# Altium footprint library Crystals.PcbLib: 2 footprints
Each footprint in its own frame and in the unit in brackets; x right, y up, seen from the top. Pads: shape width x height; smd on the part's side, far side on the other; paste and mask are expansions set on the pad; w line width, h text height; cw(c..) or ccw(c..) is an arc to the next point about the centre after c.
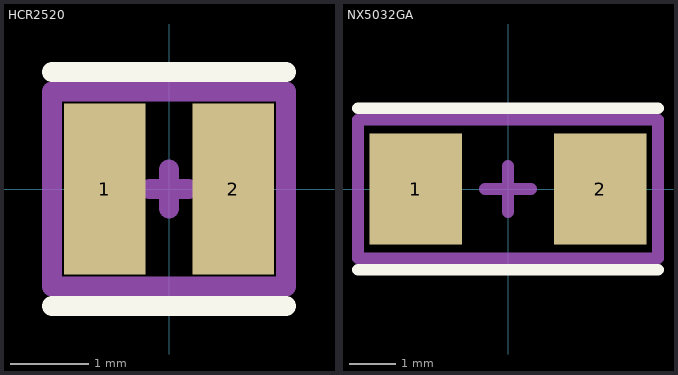
[diagram p0: the footprints below, top view; thin cyan lines are the x and y axes]

## HCR2520 [mm]
pads (2):
  rect 1.05x2.2 smd: 1(-0.825,0) 2(0.825,0)
Top Overlay:
  lines w0.254: -1.5,-1.5 1.5,-1.5 ; -1.5,1.5 1.5,1.5
Assembly:
  lines w0.254: -1.5,-1.25 -1.5,1.25 1.5,1.25 1.5,-1.25 -1.5,-1.25
Mechanical 15:
  lines w0.254: -0.25,0 0.25,0 ; 0,-0.25 0,0.25 ; -1.5,-1.25 -1.5,1.25 1.5,1.25 1.5,-1.25 -1.5,-1.25
3D body "XRCHA16M000F0A01R0.STEP": height 0.8, standoff 0, extent -1.25,-1 1.25,1

## NX5032GA [mm]
pads (2):
  rect 2x2.4 smd: 1(-2,0) 2(2,0)
Top Overlay:
  lines w0.254: -3.25,-1.75 3.25,-1.75 ; -3.25,1.75 3.25,1.75
Assembly:
  lines w0.254: -3.25,-1.5 -3.25,1.5 3.25,1.5 3.25,-1.5 -3.25,-1.5
Mechanical 15:
  lines w0.254: -0.5,0 0.5,0 ; 0,-0.5 0,0.5 ; -3.25,-1.5 -3.25,1.5 3.25,1.5 3.25,-1.5 -3.25,-1.5